# Altium integrated library Analog Devices Data Converters Analog-to-Digital Converters.IntLib: 2404 symbols (part 341 of 346)
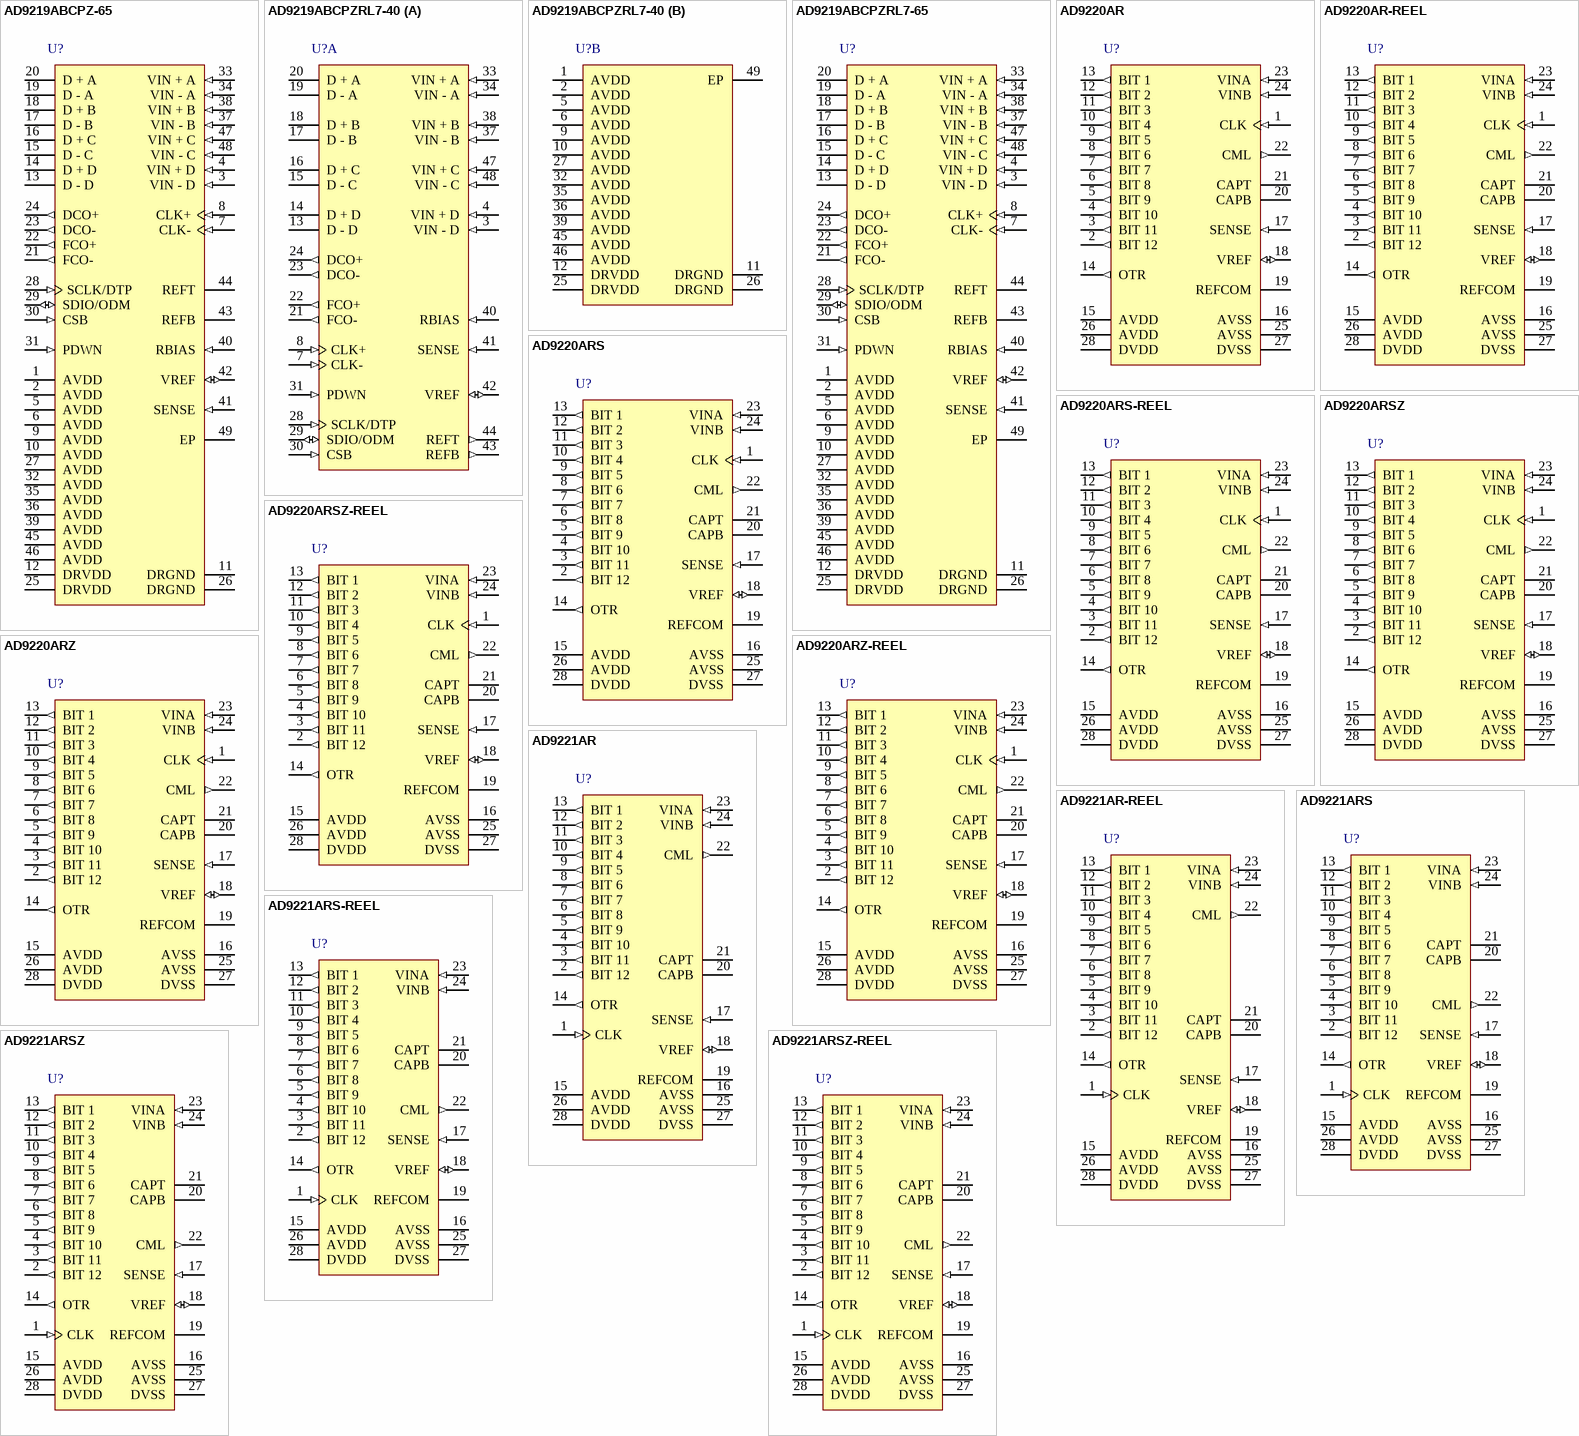
[diagram p337: symbols AD9219ABCPZ-65 to AD9221ARSZ-REEL]

## AD9221AR
designator U?
Single 12-Bit Monolithic Analog-to-Digital Converter with Parallel Interface, 1.5MSPS, -40 to +85 degC, RW-28, Tube; Generic Part Number: AD9221; Manufacturer: Analog Devices; PartNumber: AD9221AR; Resolution (Bits): 12; Channels: 1; Throughput Rate (SPS): 1.5M; Interface: Par; DatasheetVersion: Rev.E; PackageVersion: 060706-A; PackageReference: RW-28; PackageDescription: 28-Lead Standard Small Outline Package [SOIC_W]; Supplier 1: Digi-Key; Supplier Part Number 1: AD9221AR-ND; Supplier 2: Mouser; Supplier Part Number 2: 584-AD9221AR; RoHS: N; Packing: Tube; Mounting Technology: Surface Mount; Code_JEDEC: MS-013-AE; ComponentLink1Description: Manufacturer URL; ComponentLink1URL: http://www.analog.com/en/index.html; ComponentLink2Description: Datasheet; ComponentLink2URL: http://www.analog.com/static/imported-files/data_sheets/AD9221_9223_9220.pdf; ComponentLink3Description: Package Specification; ComponentLink3URL: http://www.analog.com/static/imported-files/packages/35833120341221RW_28.pdf; ComponentLink4Description: Product URL; ComponentLink4URL: http://www.analog.com/en/analog-to-digital-converters/ad-converters/ad9221/products/product.html
footprint RW-28_N (SOIC, 28-Leads, Body 17.9x7.5mm, Pitch 1.27mm, IPC Medium Density)
footprint RW-28_L (SOIC, 28-Leads, Body 17.9x7.5mm, Pitch 1.27mm, IPC High Density)
footprint RW-28_M (SOIC, 28-Leads, Body 17.9x7.5mm, Pitch 1.27mm, IPC Low Density)
pins: 1 CLK (in) "Clock Input Pin", 2 BIT 12 (out) "Least Significant Data Bit (LSB)", 3 BIT 11 (out) "Data Output Bit", 4 BIT 10 (out) "Data Output Bit", 5 BIT 9 (out) "Data Output Bit", 6 BIT 8 (out) "Data Output Bit", 7 BIT 7 (out) "Data Output Bit", 8 BIT 6 (out) "Data Output Bit", 9 BIT 5 (out) "Data Output Bit", 10 BIT 4 (out) "Data Output Bit", 11 BIT 3 (out) "Data Output Bit", 12 BIT 2 (out) "Data Output Bit", 13 BIT 1 (out) "Most Significant Data Bit (MSB)", 14 OTR (out) "Out of Range", 15 AVDD (power) "5 V Analog Supply", 16 AVSS (power) "Analog Ground", 17 SENSE (in) "Reference Select", 18 VREF (io) "Input Span Select (Reference I/O)", 19 REFCOM (power) "Reference Common", 20 CAPB "Noise Reduction Pin", 21 CAPT "Noise Reduction Pin", 22 CML (out) "Common-Mode Level (Midsupply)", 23 VINA (in) "Analog Input Pin (+)", 24 VINB (in) "Analog Input Pin (-)", 25 AVSS (power) "Analog Ground", 26 AVDD (power) "5 V Analog Supply", 27 DVSS (power) "Digital Ground", 28 DVDD (power) "3 V to 5 V Digital Supply"

## AD9221AR-REEL
designator U?
Single 12-Bit Monolithic Analog-to-Digital Converter with Parallel Interface, 1.5MSPS, -40 to +85 degC, RW-28, Reel; Generic Part Number: AD9221; Manufacturer: Analog Devices; PartNumber: AD9221AR-REEL; Resolution (Bits): 12; Channels: 1; Throughput Rate (SPS): 1.5M; Interface: Par; DatasheetVersion: Rev.E; PackageVersion: 060706-A; PackageReference: RW-28; PackageDescription: 28-Lead Standard Small Outline Package [SOIC_W]; Supplier 1: Digi-Key; Supplier Part Number 1: AD9221AR-REEL-ND; Supplier 2: Mouser; Supplier Part Number 2: 584-AD9221AR-R; RoHS: N; Packing: Reel; Mounting Technology: Surface Mount; Code_JEDEC: MS-013-AE; ComponentLink1Description: Manufacturer URL; ComponentLink1URL: http://www.analog.com/en/index.html; ComponentLink2Description: Datasheet; ComponentLink2URL: http://www.analog.com/static/imported-files/data_sheets/AD9221_9223_9220.pdf; ComponentLink3Description: Package Specification; ComponentLink3URL: http://www.analog.com/static/imported-files/packages/35833120341221RW_28.pdf; ComponentLink4Description: Product URL; ComponentLink4URL: http://www.analog.com/en/analog-to-digital-converters/ad-converters/ad9221/products/product.html
footprint RW-28_N (SOIC, 28-Leads, Body 17.9x7.5mm, Pitch 1.27mm, IPC Medium Density)
footprint RW-28_L (SOIC, 28-Leads, Body 17.9x7.5mm, Pitch 1.27mm, IPC High Density)
footprint RW-28_M (SOIC, 28-Leads, Body 17.9x7.5mm, Pitch 1.27mm, IPC Low Density)
pins: 1 CLK (in) "Clock Input Pin", 2 BIT 12 (out) "Least Significant Data Bit (LSB)", 3 BIT 11 (out) "Data Output Bit", 4 BIT 10 (out) "Data Output Bit", 5 BIT 9 (out) "Data Output Bit", 6 BIT 8 (out) "Data Output Bit", 7 BIT 7 (out) "Data Output Bit", 8 BIT 6 (out) "Data Output Bit", 9 BIT 5 (out) "Data Output Bit", 10 BIT 4 (out) "Data Output Bit", 11 BIT 3 (out) "Data Output Bit", 12 BIT 2 (out) "Data Output Bit", 13 BIT 1 (out) "Most Significant Data Bit (MSB)", 14 OTR (out) "Out of Range", 15 AVDD (power) "5 V Analog Supply", 16 AVSS (power) "Analog Ground", 17 SENSE (in) "Reference Select", 18 VREF (io) "Input Span Select (Reference I/O)", 19 REFCOM (power) "Reference Common", 20 CAPB "Noise Reduction Pin", 21 CAPT "Noise Reduction Pin", 22 CML (out) "Common-Mode Level (Midsupply)", 23 VINA (in) "Analog Input Pin (+)", 24 VINB (in) "Analog Input Pin (-)", 25 AVSS (power) "Analog Ground", 26 AVDD (power) "5 V Analog Supply", 27 DVSS (power) "Digital Ground", 28 DVDD (power) "3 V to 5 V Digital Supply"

## AD9221ARS
designator U?
Single 12-Bit Monolithic Analog-to-Digital Converter with Parallel Interface, 1.5MSPS, -40 to +85 degC, RS-28, Tube; Generic Part Number: AD9221; Manufacturer: Analog Devices; PartNumber: AD9221ARS; Resolution (Bits): 12; Channels: 1; Throughput Rate (SPS): 1.5M; Interface: Par; DatasheetVersion: Rev.E; PackageVersion: 060106-A; PackageReference: RS-28; PackageDescription: 28-Lead Shrink Small Outline Package [SSOP]; Supplier 1: Digi-Key; Supplier Part Number 1: AD9221ARS-ND; Supplier 2: Mouser; Supplier Part Number 2: 584-AD9221ARS; RoHS: N; Packing: Tube; Mounting Technology: Surface Mount; Code_JEDEC: MO-150-AH; ComponentLink1Description: Manufacturer URL; ComponentLink1URL: http://www.analog.com/en/index.html; ComponentLink2Description: Datasheet; ComponentLink2URL: http://www.analog.com/static/imported-files/data_sheets/AD9221_9223_9220.pdf; ComponentLink3Description: Package Specification; ComponentLink3URL: http://www.analog.com/static/imported-files/packages/32122249223724RS_28.pdf; ComponentLink4Description: Product URL; ComponentLink4URL: http://www.analog.com/en/analog-to-digital-converters/ad-converters/ad9221/products/product.html
footprint RS-28_N (SOP, 28-Leads, Body 10.2x5.3mm, Pitch 0.65mm, IPC Medium Density)
footprint RS-28_L (SOP, 28-Leads, Body 10.2x5.3mm, Pitch 0.65mm, IPC High Density)
footprint RS-28_M (SOP, 28-Leads, Body 10.2x5.3mm, Pitch 0.65mm, IPC Low Density)
pins: 1 CLK (in) "Clock Input Pin", 2 BIT 12 (out) "Least Significant Data Bit (LSB)", 3 BIT 11 (out) "Data Output Bit", 4 BIT 10 (out) "Data Output Bit", 5 BIT 9 (out) "Data Output Bit", 6 BIT 8 (out) "Data Output Bit", 7 BIT 7 (out) "Data Output Bit", 8 BIT 6 (out) "Data Output Bit", 9 BIT 5 (out) "Data Output Bit", 10 BIT 4 (out) "Data Output Bit", 11 BIT 3 (out) "Data Output Bit", 12 BIT 2 (out) "Data Output Bit", 13 BIT 1 (out) "Most Significant Data Bit (MSB)", 14 OTR (out) "Out of Range", 15 AVDD (power) "5 V Analog Supply", 16 AVSS (power) "Analog Ground", 17 SENSE (in) "Reference Select", 18 VREF (io) "Reference I/O", 19 REFCOM (power) "Reference Common", 20 CAPB "Noise Reduction Pin", 21 CAPT "Noise Reduction Pin", 22 CML (out) "Common-Mode Level (Midsupply)", 23 VINA (in) "Analog Input Pin (+)", 24 VINB (in) "Analog Input Pin (-)", 25 AVSS (power) "Analog Ground", 26 AVDD (power) "5 V Analog Supply", 27 DVSS (power) "Digital Ground", 28 DVDD (power) "3 V to 5 V Digital Supply"

## AD9221ARS-REEL
designator U?
Single 12-Bit Monolithic Analog-to-Digital Converter with Parallel Interface, 1.5MSPS, -40 to +85 degC, RS-28, Reel; Generic Part Number: AD9221; Manufacturer: Analog Devices; PartNumber: AD9221ARS-REEL; Resolution (Bits): 12; Channels: 1; Throughput Rate (SPS): 1.5M; Interface: Par; DatasheetVersion: Rev.E; PackageVersion: 060106-A; PackageReference: RS-28; PackageDescription: 28-Lead Shrink Small Outline Package [SSOP]; Supplier 1: Digi-Key; Supplier Part Number 1: AD9221ARS-REEL-ND; Supplier 2: Newark; Supplier Part Number 2: 98B7460; Supplier 3: Mouser; Supplier Part Number 3: 584-AD9221ARS-R; RoHS: N; Packing: Reel; Mounting Technology: Surface Mount; Code_JEDEC: MO-150-AH; ComponentLink1Description: Manufacturer URL; ComponentLink1URL: http://www.analog.com/en/index.html; ComponentLink2Description: Datasheet; ComponentLink2URL: http://www.analog.com/static/imported-files/data_sheets/AD9221_9223_9220.pdf; ComponentLink3Description: Package Specification; ComponentLink3URL: http://www.analog.com/static/imported-files/packages/32122249223724RS_28.pdf; ComponentLink4Description: Product URL; ComponentLink4URL: http://www.analog.com/en/analog-to-digital-converters/ad-converters/ad9221/products/product.html
footprint RS-28_N (SOP, 28-Leads, Body 10.2x5.3mm, Pitch 0.65mm, IPC Medium Density)
footprint RS-28_L (SOP, 28-Leads, Body 10.2x5.3mm, Pitch 0.65mm, IPC High Density)
footprint RS-28_M (SOP, 28-Leads, Body 10.2x5.3mm, Pitch 0.65mm, IPC Low Density)
pins: 1 CLK (in) "Clock Input Pin", 2 BIT 12 (out) "Least Significant Data Bit (LSB)", 3 BIT 11 (out) "Data Output Bit", 4 BIT 10 (out) "Data Output Bit", 5 BIT 9 (out) "Data Output Bit", 6 BIT 8 (out) "Data Output Bit", 7 BIT 7 (out) "Data Output Bit", 8 BIT 6 (out) "Data Output Bit", 9 BIT 5 (out) "Data Output Bit", 10 BIT 4 (out) "Data Output Bit", 11 BIT 3 (out) "Data Output Bit", 12 BIT 2 (out) "Data Output Bit", 13 BIT 1 (out) "Most Significant Data Bit (MSB)", 14 OTR (out) "Out of Range", 15 AVDD (power) "5 V Analog Supply", 16 AVSS (power) "Analog Ground", 17 SENSE (in) "Reference Select", 18 VREF (io) "Reference I/O", 19 REFCOM (power) "Reference Common", 20 CAPB "Noise Reduction Pin", 21 CAPT "Noise Reduction Pin", 22 CML (out) "Common-Mode Level (Midsupply)", 23 VINA (in) "Analog Input Pin (+)", 24 VINB (in) "Analog Input Pin (-)", 25 AVSS (power) "Analog Ground", 26 AVDD (power) "5 V Analog Supply", 27 DVSS (power) "Digital Ground", 28 DVDD (power) "3 V to 5 V Digital Supply"

## AD9221ARSZ
designator U?
Single 12-Bit Monolithic Analog-to-Digital Converter with Parallel Interface, 1.5MSPS, -40 to +85 degC, RS-28, Pb-Free, Tube; Generic Part Number: AD9221; Manufacturer: Analog Devices; PartNumber: AD9221ARSZ; Resolution (Bits): 12; Channels: 1; Throughput Rate (SPS): 1.5M; Interface: Par; DatasheetVersion: Rev.E; PackageVersion: 060106-A; PackageReference: RS-28; PackageDescription: 28-Lead Shrink Small Outline Package [SSOP]; Supplier 1: Digi-Key; Supplier Part Number 1: AD9221ARSZ-ND; Supplier 2: Newark; Supplier Part Number 2: 59K7159; Supplier 3: Mouser; Supplier Part Number 3: 584-AD9221ARSZ; RoHS: Y; Packing: Tube; Mounting Technology: Surface Mount; Code_JEDEC: MO-150-AH; ComponentLink1Description: Manufacturer URL; ComponentLink1URL: http://www.analog.com/en/index.html; ComponentLink2Description: Datasheet; ComponentLink2URL: http://www.analog.com/static/imported-files/data_sheets/AD9221_9223_9220.pdf; ComponentLink3Description: Package Specification; ComponentLink3URL: http://www.analog.com/static/imported-files/packages/32122249223724RS_28.pdf; ComponentLink4Description: Product URL; ComponentLink4URL: http://www.analog.com/en/analog-to-digital-converters/ad-converters/ad9221/products/product.html
footprint RS-28_N (SOP, 28-Leads, Body 10.2x5.3mm, Pitch 0.65mm, IPC Medium Density)
footprint RS-28_L (SOP, 28-Leads, Body 10.2x5.3mm, Pitch 0.65mm, IPC High Density)
footprint RS-28_M (SOP, 28-Leads, Body 10.2x5.3mm, Pitch 0.65mm, IPC Low Density)
pins: 1 CLK (in) "Clock Input Pin", 2 BIT 12 (out) "Least Significant Data Bit (LSB)", 3 BIT 11 (out) "Data Output Bit", 4 BIT 10 (out) "Data Output Bit", 5 BIT 9 (out) "Data Output Bit", 6 BIT 8 (out) "Data Output Bit", 7 BIT 7 (out) "Data Output Bit", 8 BIT 6 (out) "Data Output Bit", 9 BIT 5 (out) "Data Output Bit", 10 BIT 4 (out) "Data Output Bit", 11 BIT 3 (out) "Data Output Bit", 12 BIT 2 (out) "Data Output Bit", 13 BIT 1 (out) "Most Significant Data Bit (MSB)", 14 OTR (out) "Out of Range", 15 AVDD (power) "5 V Analog Supply", 16 AVSS (power) "Analog Ground", 17 SENSE (in) "Reference Select", 18 VREF (io) "Reference I/O", 19 REFCOM (power) "Reference Common", 20 CAPB "Noise Reduction Pin", 21 CAPT "Noise Reduction Pin", 22 CML (out) "Common-Mode Level (Midsupply)", 23 VINA (in) "Analog Input Pin (+)", 24 VINB (in) "Analog Input Pin (-)", 25 AVSS (power) "Analog Ground", 26 AVDD (power) "5 V Analog Supply", 27 DVSS (power) "Digital Ground", 28 DVDD (power) "3 V to 5 V Digital Supply"

## AD9221ARSZ-REEL
designator U?
Single 12-Bit Monolithic Analog-to-Digital Converter with Parallel Interface, 1.5MSPS, 0 to +70 degC, RS-28, Pb-Free, Reel; Generic Part Number: AD9221; Manufacturer: Analog Devices; PartNumber: AD9221ARSZ-REEL; Resolution (Bits): 12; Channels: 1; Throughput Rate (SPS): 1.5M; Interface: Par; DatasheetVersion: Rev.E; PackageVersion: 060106-A; PackageReference: RS-28; PackageDescription: 28-Lead Shrink Small Outline Package [SSOP]; Supplier 1: Digi-Key; Supplier Part Number 1: AD9221ARSZ-REEL-ND; Supplier 2: Mouser; Supplier Part Number 2: 584-AD9221ARSZ-R; RoHS: Y; Packing: Reel; Mounting Technology: Surface Mount; Code_JEDEC: MO-150-AH; ComponentLink1Description: Manufacturer URL; ComponentLink1URL: http://www.analog.com/en/index.html; ComponentLink2Description: Datasheet; ComponentLink2URL: http://www.analog.com/static/imported-files/data_sheets/AD9221_9223_9220.pdf; ComponentLink3Description: Package Specification; ComponentLink3URL: http://www.analog.com/static/imported-files/packages/32122249223724RS_28.pdf; ComponentLink4Description: Product URL; ComponentLink4URL: http://www.analog.com/en/analog-to-digital-converters/ad-converters/ad9221/products/product.html
footprint RS-28_N (SOP, 28-Leads, Body 10.2x5.3mm, Pitch 0.65mm, IPC Medium Density)
footprint RS-28_L (SOP, 28-Leads, Body 10.2x5.3mm, Pitch 0.65mm, IPC High Density)
footprint RS-28_M (SOP, 28-Leads, Body 10.2x5.3mm, Pitch 0.65mm, IPC Low Density)
pins: 1 CLK (in) "Clock Input Pin", 2 BIT 12 (out) "Least Significant Data Bit (LSB)", 3 BIT 11 (out) "Data Output Bit", 4 BIT 10 (out) "Data Output Bit", 5 BIT 9 (out) "Data Output Bit", 6 BIT 8 (out) "Data Output Bit", 7 BIT 7 (out) "Data Output Bit", 8 BIT 6 (out) "Data Output Bit", 9 BIT 5 (out) "Data Output Bit", 10 BIT 4 (out) "Data Output Bit", 11 BIT 3 (out) "Data Output Bit", 12 BIT 2 (out) "Data Output Bit", 13 BIT 1 (out) "Most Significant Data Bit (MSB)", 14 OTR (out) "Out of Range", 15 AVDD (power) "5 V Analog Supply", 16 AVSS (power) "Analog Ground", 17 SENSE (in) "Reference Select", 18 VREF (io) "Reference I/O", 19 REFCOM (power) "Reference Common", 20 CAPB "Noise Reduction Pin", 21 CAPT "Noise Reduction Pin", 22 CML (out) "Common-Mode Level (Midsupply)", 23 VINA (in) "Analog Input Pin (+)", 24 VINB (in) "Analog Input Pin (-)", 25 AVSS (power) "Analog Ground", 26 AVDD (power) "5 V Analog Supply", 27 DVSS (power) "Digital Ground", 28 DVDD (power) "3 V to 5 V Digital Supply"

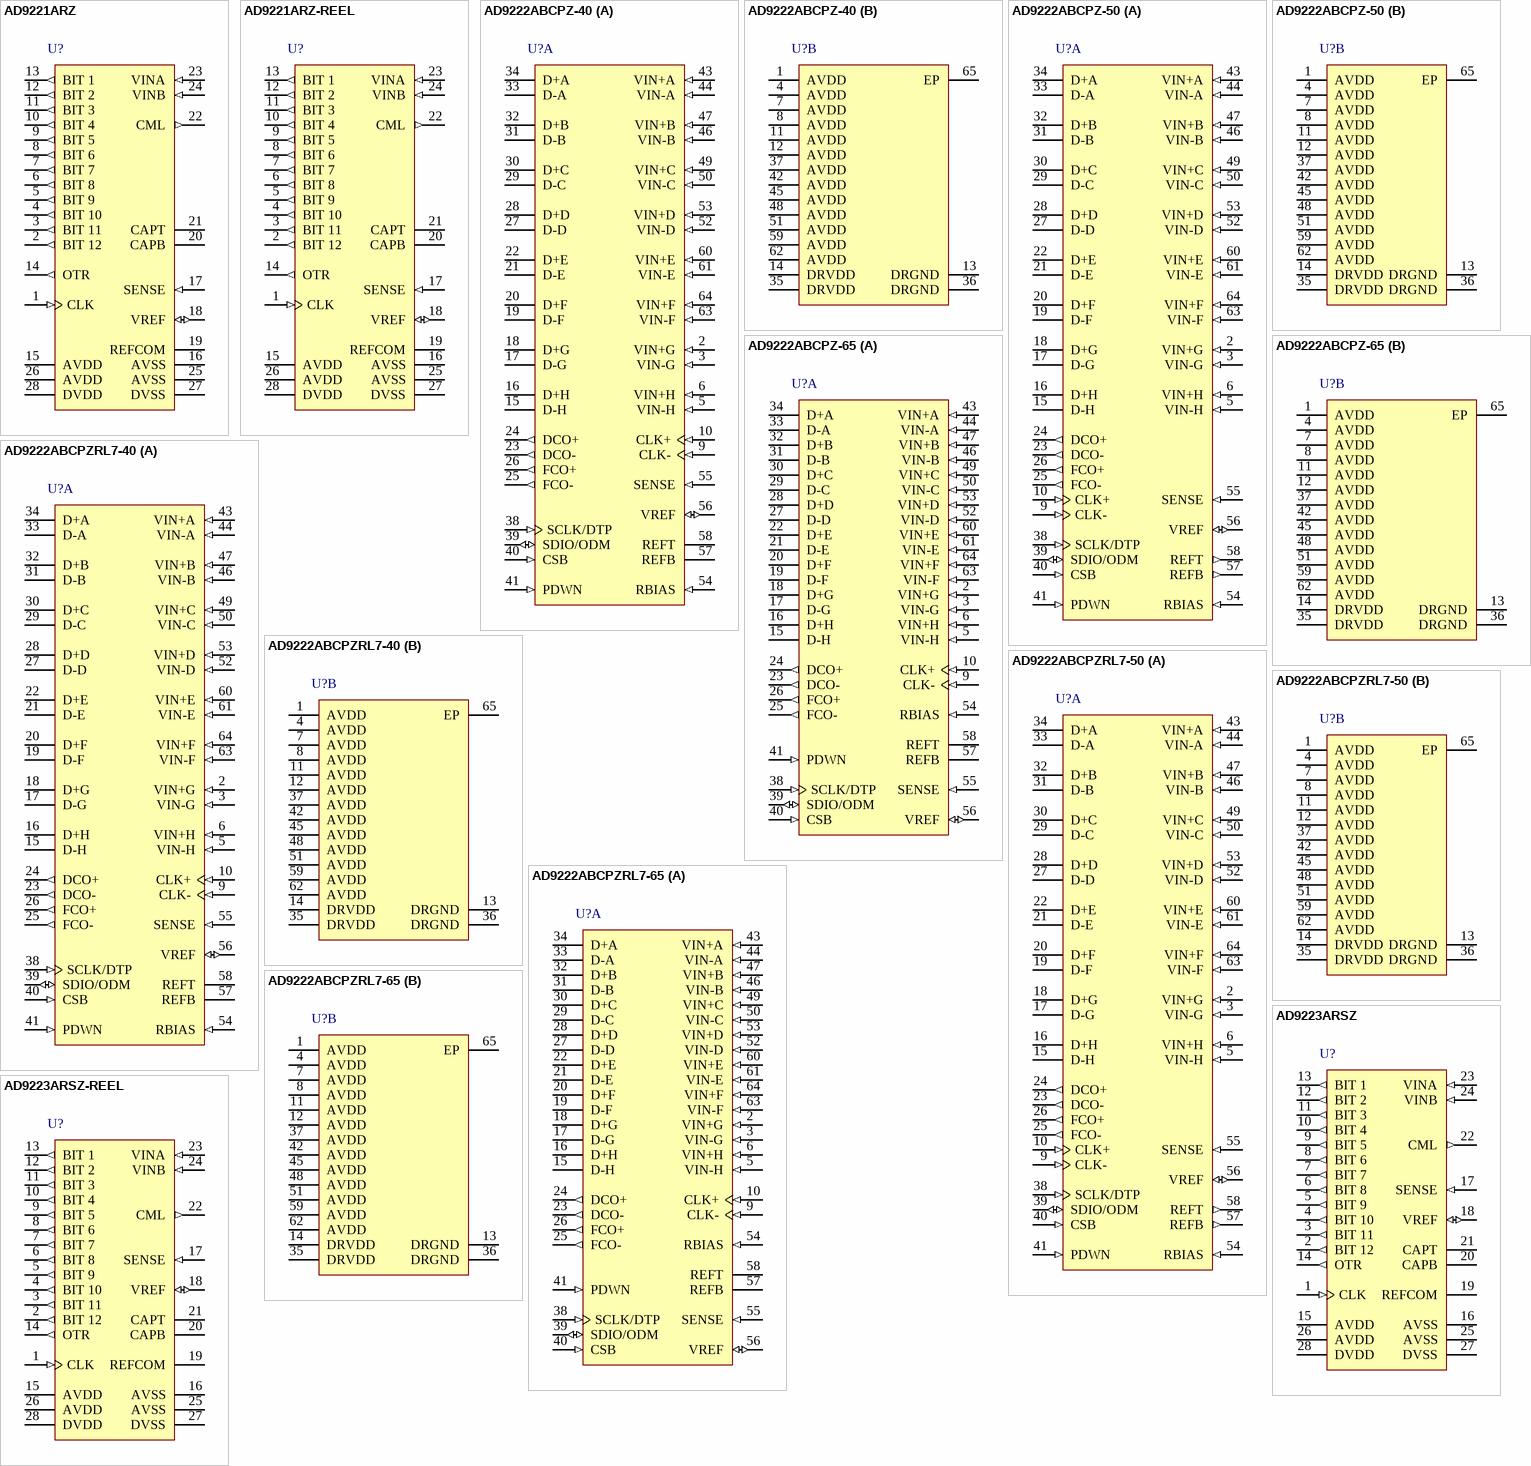
[diagram p104: symbols AD9221ARZ to AD9223ARSZ-REEL]

## AD9221ARZ
designator U?
Single 12-Bit Monolithic Analog-to-Digital Converter with Parallel Interface, 1.5MSPS, -40 to +85 degC, RW-28, Pb-Free, Tube; Generic Part Number: AD9221; Manufacturer: Analog Devices; PartNumber: AD9221ARZ; Resolution (Bits): 12; Channels: 1; Throughput Rate (SPS): 1.5M; Interface: Par; DatasheetVersion: Rev.E; PackageVersion: 060706-A; PackageReference: RW-28; PackageDescription: 28-Lead Standard Small Outline Package [SOIC_W]; Supplier 1: Digi-Key; Supplier Part Number 1: AD9221ARZ-ND; Supplier 2: Mouser; Supplier Part Number 2: 584-AD9221ARZ; RoHS: Y; Packing: Tube; Mounting Technology: Surface Mount; Code_JEDEC: MS-013-AE; ComponentLink1Description: Manufacturer URL; ComponentLink1URL: http://www.analog.com/en/index.html; ComponentLink2Description: Datasheet; ComponentLink2URL: http://www.analog.com/static/imported-files/data_sheets/AD9221_9223_9220.pdf; ComponentLink3Description: Package Specification; ComponentLink3URL: http://www.analog.com/static/imported-files/packages/35833120341221RW_28.pdf; ComponentLink4Description: Product URL; ComponentLink4URL: http://www.analog.com/en/analog-to-digital-converters/ad-converters/ad9221/products/product.html
footprint RW-28_N (SOIC, 28-Leads, Body 17.9x7.5mm, Pitch 1.27mm, IPC Medium Density)
footprint RW-28_L (SOIC, 28-Leads, Body 17.9x7.5mm, Pitch 1.27mm, IPC High Density)
footprint RW-28_M (SOIC, 28-Leads, Body 17.9x7.5mm, Pitch 1.27mm, IPC Low Density)
pins: 1 CLK (in) "Clock Input Pin", 2 BIT 12 (out) "Least Significant Data Bit (LSB)", 3 BIT 11 (out) "Data Output Bit", 4 BIT 10 (out) "Data Output Bit", 5 BIT 9 (out) "Data Output Bit", 6 BIT 8 (out) "Data Output Bit", 7 BIT 7 (out) "Data Output Bit", 8 BIT 6 (out) "Data Output Bit", 9 BIT 5 (out) "Data Output Bit", 10 BIT 4 (out) "Data Output Bit", 11 BIT 3 (out) "Data Output Bit", 12 BIT 2 (out) "Data Output Bit", 13 BIT 1 (out) "Most Significant Data Bit (MSB)", 14 OTR (out) "Out of Range", 15 AVDD (power) "5 V Analog Supply", 16 AVSS (power) "Analog Ground", 17 SENSE (in) "Reference Select", 18 VREF (io) "Input Span Select (Reference I/O)", 19 REFCOM (power) "Reference Common", 20 CAPB "Noise Reduction Pin", 21 CAPT "Noise Reduction Pin", 22 CML (out) "Common-Mode Level (Midsupply)", 23 VINA (in) "Analog Input Pin (+)", 24 VINB (in) "Analog Input Pin (-)", 25 AVSS (power) "Analog Ground", 26 AVDD (power) "5 V Analog Supply", 27 DVSS (power) "Digital Ground", 28 DVDD (power) "3 V to 5 V Digital Supply"

## AD9221ARZ-REEL
designator U?
Single 12-Bit Monolithic Analog-to-Digital Converter with Parallel Interface, 1.5MSPS, -40 to +85 degC, RW-28, Pb-Free, Reel; Generic Part Number: AD9221; Manufacturer: Analog Devices; PartNumber: AD9221ARZ-REEL; Resolution (Bits): 12; Channels: 1; Throughput Rate (SPS): 1.5M; Interface: Par; DatasheetVersion: Rev.E; PackageVersion: 060706-A; PackageReference: RW-28; PackageDescription: 28-Lead Standard Small Outline Package [SOIC_W]; Supplier 1: Digi-Key; Supplier Part Number 1: AD9221ARZ-REEL-ND; Supplier 2: Mouser; Supplier Part Number 2: 584-AD9221ARZ-R; RoHS: Y; Packing: Reel; Mounting Technology: Surface Mount; Code_JEDEC: MS-013-AE; ComponentLink1Description: Manufacturer URL; ComponentLink1URL: http://www.analog.com/en/index.html; ComponentLink2Description: Datasheet; ComponentLink2URL: http://www.analog.com/static/imported-files/data_sheets/AD9221_9223_9220.pdf; ComponentLink3Description: Package Specification; ComponentLink3URL: http://www.analog.com/static/imported-files/packages/35833120341221RW_28.pdf; ComponentLink4Description: Product URL; ComponentLink4URL: http://www.analog.com/en/analog-to-digital-converters/ad-converters/ad9221/products/product.html
footprint RW-28_N (SOIC, 28-Leads, Body 17.9x7.5mm, Pitch 1.27mm, IPC Medium Density)
footprint RW-28_L (SOIC, 28-Leads, Body 17.9x7.5mm, Pitch 1.27mm, IPC High Density)
footprint RW-28_M (SOIC, 28-Leads, Body 17.9x7.5mm, Pitch 1.27mm, IPC Low Density)
pins: 1 CLK (in) "Clock Input Pin", 2 BIT 12 (out) "Least Significant Data Bit (LSB)", 3 BIT 11 (out) "Data Output Bit", 4 BIT 10 (out) "Data Output Bit", 5 BIT 9 (out) "Data Output Bit", 6 BIT 8 (out) "Data Output Bit", 7 BIT 7 (out) "Data Output Bit", 8 BIT 6 (out) "Data Output Bit", 9 BIT 5 (out) "Data Output Bit", 10 BIT 4 (out) "Data Output Bit", 11 BIT 3 (out) "Data Output Bit", 12 BIT 2 (out) "Data Output Bit", 13 BIT 1 (out) "Most Significant Data Bit (MSB)", 14 OTR (out) "Out of Range", 15 AVDD (power) "5 V Analog Supply", 16 AVSS (power) "Analog Ground", 17 SENSE (in) "Reference Select", 18 VREF (io) "Input Span Select (Reference I/O)", 19 REFCOM (power) "Reference Common", 20 CAPB "Noise Reduction Pin", 21 CAPT "Noise Reduction Pin", 22 CML (out) "Common-Mode Level (Midsupply)", 23 VINA (in) "Analog Input Pin (+)", 24 VINB (in) "Analog Input Pin (-)", 25 AVSS (power) "Analog Ground", 26 AVDD (power) "5 V Analog Supply", 27 DVSS (power) "Digital Ground", 28 DVDD (power) "3 V to 5 V Digital Supply"

## AD9222ABCPZ-40
designator U?
Octal 12-Bit Analog-to-Digital Converter with LVDS, Serial Interface, 40MSPS, -40 to +85 degC, CP-64-6, Pb-Free, Tray; Generic Part Number: AD9222-40; Manufacturer: Analog Devices; PartNumber: AD9222ABCPZ-40; Resolution (Bits): 12; Channels: 8; Throughput Rate (SPS): 40M; DatasheetVersion: Rev.F; PackageVersion: 041509-A; PackageReference: CP-64-6; PackageDescription: 64-Lead Lead Frame Chip Scale Package [LFCSP_VQ] 9 x 9 mm Body, Very Thin Quad; Supplier 1: Digi-Key; Supplier Part Number 1: AD9222ABCPZ-40-ND; Supplier 2: Farnell; Supplier Part Number 2: 2312981; Supplier 3: Newark; Supplier Part Number 3: 70R1859; Supplier 4: Mouser; Supplier Part Number 4: 584-AD9222ABCPZ-40; Interface: LVDS, Ser; RoHS: Y; Packing: Tray; Mounting Technology: Surface Mount; Code_JEDEC: MO-220-VMMD-4; ComponentLink1Description: Manufacturer URL; ComponentLink1URL: http://www.analog.com/en/index.html; ComponentLink2Description: Datasheet; ComponentLink2URL: http://www.analog.com/static/imported-files/data_sheets/AD9222.pdf; ComponentLink3Description: Package Specification; ComponentLink3URL: http://www.analog.com/static/imported-files/packages/PKG_PDF/LFCSP(CP)/CP_64_6.pdf; ComponentLink4Description: Product URL; ComponentLink4URL: http://www.analog.com/en/analog-to-digital-converters/ad-converters/ad9222/products/product.html
footprint CP-64-6_N (QFN, 64-Leads, Body 9x9mm, Pitch 0.5mm, Thermal Pad 7.5x7.5mm, IPC Medium Density)
footprint CP-64-6_L (QFN, 64-Leads, Body 9x9mm, Pitch 0.5mm, Thermal Pad 7.5x7.5mm, IPC High Density)
footprint CP-64-6_M (QFN, 64-Leads, Body 9x9mm, Pitch 0.5mm, Thermal Pad 7.5x7.5mm, IPC Low Density)
part A pins: 2 VIN+G (in) "ADC G Analog Input True", 3 VIN-G (in) "ADC G Analog Input Complement", 5 VIN-H (in) "ADC H Analog Input Complement", 6 VIN+H (in) "ADC H Analog Input True", 9 CLK- (in) "Input Clock Complement", 10 CLK+ (in) "Input Clock True", 15 D-H (hiz) "ADC H Digital Output Complement", 16 D+H (hiz) "ADC H Digital Output True", 17 D-G (hiz) "ADC G Digital Output Complement", 18 D+G (hiz) "ADC G Digital Output True", 19 D-F (hiz) "ADC F Digital Output Complement", 20 D+F (hiz) "ADC F Digital Output True", 21 D-E (hiz) "ADC E Digital Output Complement", 22 D+E (hiz) "ADC E Digital Output True", 23 DCO- (out) "Data Clock Digital Output Complement", 24 DCO+ (out) "Data Clock Digital Output True", 25 FCO- (out) "Frame Clock Digital Output Complement", 26 FCO+ (out) "Frame Clock Digital Output True", 27 D-D (hiz) "ADC D Digital Output Complement", 28 D+D (hiz) "ADC D Digital Output True", 29 D-C (hiz) "ADC C Digital Output Complement", 30 D+C (hiz) "ADC C Digital Output True", 31 D-B (hiz) "ADC B Digital Output Complement", 32 D+B (hiz) "ADC B Digital Output True", 33 D-A (hiz) "ADC A Digital Output Complement", 34 D+A (hiz) "ADC A Digital Output True", 38 SCLK/DTP (in) "Serial Clock/Digital Test Pattern", 39 SDIO/ODM (io) "Serial Data Input-Output/Output Driver Mode", 40 CSB (in) "Chip Select Bar", 41 PDWN (in) "Power Down", 43 VIN+A (in) "ADC A Analog Input True", 44 VIN-A (in) "ADC A Analog Input Complement", 46 VIN-B (in) "ADC B Analog Input Complement", 47 VIN+B (in) "ADC B Analog Input True", 49 VIN+C (in) "ADC C Analog Input True", 50 VIN-C (in) "ADC C Analog Input Complement", 52 VIN-D (in) "ADC D Analog Input Complement", 53 VIN+D (in) "ADC D Analog Input True", 54 RBIAS (in) "External Resistor to Set the Internal ADC Core Bias Current", 55 SENSE (in) "Reference Mode Selection", 56 VREF (io) "Voltage Reference Input/Output", 57 REFB "Differential Reference (Negative)", 58 REFT "Differential Reference (Positive)", 60 VIN+E (in) "ADC E Analog Input True", 61 VIN-E (in) "ADC E Analog Input Complement", 63 VIN-F (in) "ADC F Analog Input Complement", 64 VIN+F (in) "ADC F Analog Input True"
part B pins: 1 AVDD (power) "1.8 V Analog Supply", 4 AVDD (power) "1.8 V Analog Supply", 7 AVDD (power) "1.8 V Analog Supply", 8 AVDD (power) "1.8 V Analog Supply", 11 AVDD (power) "1.8 V Analog Supply", 12 AVDD (power) "1.8 V Analog Supply", 13 DRGND (power) "Digital Output Driver Ground", 14 DRVDD (power) "1.8 V Digital Output Driver Supply", 35 DRVDD (power) "1.8 V Digital Output Driver Supply", 36 DRGND (power) "Digital Output Driver Ground", 37 AVDD (power) "1.8 V Analog Supply", 42 AVDD (power) "1.8 V Analog Supply", 45 AVDD (power) "1.8 V Analog Supply", 48 AVDD (power) "1.8 V Analog Supply", 51 AVDD (power) "1.8 V Analog Supply", 59 AVDD (power) "1.8 V Analog Supply", 62 AVDD (power) "1.8 V Analog Supply", 65 EP (power) "Analog Ground (Exposed Paddle)"

## AD9222ABCPZ-50
designator U?
Octal 12-Bit Analog-to-Digital Converter with LVDS, Serial Interface, 50MSPS, -40 to +85 degC, CP-64-6, Pb-Free, Tray; Generic Part Number: AD9222-50; Manufacturer: Analog Devices; PartNumber: AD9222ABCPZ-50; Resolution (Bits): 12; Channels: 8; Throughput Rate (SPS): 50M; DatasheetVersion: Rev.F; PackageVersion: 041509-A; PackageReference: CP-64-6; PackageDescription: 64-Lead Lead Frame Chip Scale Package [LFCSP_VQ] 9 x 9 mm Body, Very Thin Quad; Supplier 1: Digi-Key; Supplier Part Number 1: AD9222ABCPZ-50-ND; Supplier 2: Newark; Supplier Part Number 2: 70R1860; Supplier 3: Mouser; Supplier Part Number 3: 584-AD9222ABCPZ-50; Interface: LVDS, Ser; RoHS: Y; Packing: Tray; Mounting Technology: Surface Mount; Code_JEDEC: MO-220-VMMD-4; ComponentLink1Description: Manufacturer URL; ComponentLink1URL: http://www.analog.com/en/index.html; ComponentLink2Description: Datasheet; ComponentLink2URL: http://www.analog.com/static/imported-files/data_sheets/AD9222.pdf; ComponentLink3Description: Package Specification; ComponentLink3URL: http://www.analog.com/static/imported-files/packages/PKG_PDF/LFCSP(CP)/CP_64_6.pdf; ComponentLink4Description: Product URL; ComponentLink4URL: http://www.analog.com/en/analog-to-digital-converters/ad-converters/ad9222/products/product.html
footprint CP-64-6_N (QFN, 64-Leads, Body 9x9mm, Pitch 0.5mm, Thermal Pad 7.5x7.5mm, IPC Medium Density)
footprint CP-64-6_L (QFN, 64-Leads, Body 9x9mm, Pitch 0.5mm, Thermal Pad 7.5x7.5mm, IPC High Density)
footprint CP-64-6_M (QFN, 64-Leads, Body 9x9mm, Pitch 0.5mm, Thermal Pad 7.5x7.5mm, IPC Low Density)
part A pins: 2 VIN+G (in) "ADC G Analog Input True", 3 VIN-G (in) "ADC G Analog Input Complement", 5 VIN-H (in) "ADC H Analog Input Complement", 6 VIN+H (in) "ADC H Analog Input True", 9 CLK- (in) "Input Clock Complement", 10 CLK+ (in) "Input Clock True", 15 D-H (hiz) "ADC H Digital Output Complement", 16 D+H (hiz) "ADC H Digital Output True", 17 D-G (hiz) "ADC G Digital Output Complement", 18 D+G (hiz) "ADC G Digital Output True", 19 D-F (hiz) "ADC F Digital Output Complement", 20 D+F (hiz) "ADC F Digital Output True", 21 D-E (hiz) "ADC E Digital Output Complement", 22 D+E (hiz) "ADC E Digital Output True", 23 DCO- (out) "Data Clock Digital Output Complement", 24 DCO+ (out) "Data Clock Digital Output True", 25 FCO- (out) "Frame Clock Digital Output Complement", 26 FCO+ (out) "Frame Clock Digital Output True", 27 D-D (hiz) "ADC D Digital Output Complement", 28 D+D (hiz) "ADC D Digital Output True", 29 D-C (hiz) "ADC C Digital Output Complement", 30 D+C (hiz) "ADC C Digital Output True", 31 D-B (hiz) "ADC B Digital Output Complement", 32 D+B (hiz) "ADC B Digital Output True", 33 D-A (hiz) "ADC A Digital Output Complement", 34 D+A (hiz) "ADC A Digital Output True", 38 SCLK/DTP (in) "Serial Clock/Digital Test Pattern", 39 SDIO/ODM (io) "Serial Data Input-Output/Output Driver Mode", 40 CSB (in) "Chip Select Bar", 41 PDWN (in) "Power Down", 43 VIN+A (in) "ADC A Analog Input True", 44 VIN-A (in) "ADC A Analog Input Complement", 46 VIN-B (in) "ADC B Analog Input Complement", 47 VIN+B (in) "ADC B Analog Input True", 49 VIN+C (in) "ADC C Analog Input True", 50 VIN-C (in) "ADC C Analog Input Complement", 52 VIN-D (in) "ADC D Analog Input Complement", 53 VIN+D (in) "ADC D Analog Input True", 54 RBIAS (in) "External Resistor to Set the Internal ADC Core Bias Current", 55 SENSE (in) "Reference Mode Selection", 56 VREF (io) "Voltage Reference Input/Output", 57 REFB (out) "Differential Reference (Negative)", 58 REFT (out) "Differential Reference (Positive)", 60 VIN+E (in) "ADC E Analog Input True", 61 VIN-E (in) "ADC E Analog Input Complement", 63 VIN-F (in) "ADC F Analog Input Complement", 64 VIN+F (in) "ADC F Analog Input True"
part B pins: 1 AVDD (power) "1.8 V Analog Supply", 4 AVDD (power) "1.8 V Analog Supply", 7 AVDD (power) "1.8 V Analog Supply", 8 AVDD (power) "1.8 V Analog Supply", 11 AVDD (power) "1.8 V Analog Supply", 12 AVDD (power) "1.8 V Analog Supply", 13 DRGND (power) "Digital Output Driver Ground", 14 DRVDD (power) "1.8 V Digital Output Driver Supply", 35 DRVDD (power) "1.8 V Digital Output Driver Supply", 36 DRGND (power) "Digital Output Driver Ground", 37 AVDD (power) "1.8 V Analog Supply", 42 AVDD (power) "1.8 V Analog Supply", 45 AVDD (power) "1.8 V Analog Supply", 48 AVDD (power) "1.8 V Analog Supply", 51 AVDD (power) "1.8 V Analog Supply", 59 AVDD (power) "1.8 V Analog Supply", 62 AVDD (power) "1.8 V Analog Supply", 65 EP (power) "Analog Ground (Exposed Paddle)"

## AD9222ABCPZ-65
designator U?
Octal 12-Bit Analog-to-Digital Converter with LVDS, Serial Interface, 65MSPS, -40 to +85 degC, CP-64-6, Pb-Free, Tray; Generic Part Number: AD9222-65; Manufacturer: Analog Devices; PartNumber: AD9222ABCPZ-65; Resolution (Bits): 12; Channels: 8; Throughput Rate (SPS): 65M; DatasheetVersion: Rev.F; PackageVersion: 041509-A; PackageReference: CP-64-6; PackageDescription: 64-Lead Lead Frame Chip Scale Package [LFCSP_VQ] 9 x 9 mm Body, Very Thin Quad; Supplier 1: Digi-Key; Supplier Part Number 1: AD9222ABCPZ-65-ND; Supplier 2: Newark; Supplier Part Number 2: 70R1861; Supplier 3: Mouser; Supplier Part Number 3: 584-AD9222ABCPZ-65; Interface: LVDS, Ser; RoHS: Y; Packing: Tray; Mounting Technology: Surface Mount; Code_JEDEC: MO-220-VMMD-4; ComponentLink1Description: Manufacturer URL; ComponentLink1URL: http://www.analog.com/en/index.html; ComponentLink2Description: Datasheet; ComponentLink2URL: http://www.analog.com/static/imported-files/data_sheets/AD9222.pdf; ComponentLink3Description: Package Specification; ComponentLink3URL: http://www.analog.com/static/imported-files/packages/PKG_PDF/LFCSP(CP)/CP_64_6.pdf; ComponentLink4Description: Product URL; ComponentLink4URL: http://www.analog.com/en/analog-to-digital-converters/ad-converters/ad9222/products/product.html
footprint CP-64-6_N (QFN, 64-Leads, Body 9x9mm, Pitch 0.5mm, Thermal Pad 7.5x7.5mm, IPC Medium Density)
footprint CP-64-6_L (QFN, 64-Leads, Body 9x9mm, Pitch 0.5mm, Thermal Pad 7.5x7.5mm, IPC High Density)
footprint CP-64-6_M (QFN, 64-Leads, Body 9x9mm, Pitch 0.5mm, Thermal Pad 7.5x7.5mm, IPC Low Density)
part A pins: 2 VIN+G (in) "ADC G Analog Input True", 3 VIN-G (in) "ADC G Analog Input Complement", 5 VIN-H (in) "ADC H Analog Input Complement", 6 VIN+H (in) "ADC H Analog Input True", 9 CLK- (in) "Input Clock Complement", 10 CLK+ (in) "Input Clock True", 15 D-H (hiz) "ADC H Digital Output Complement", 16 D+H (hiz) "ADC H Digital Output True", 17 D-G (hiz) "ADC G Digital Output Complement", 18 D+G (hiz) "ADC G Digital Output True", 19 D-F (hiz) "ADC F Digital Output Complement", 20 D+F (hiz) "ADC F Digital Output True", 21 D-E (hiz) "ADC E Digital Output Complement", 22 D+E (hiz) "ADC E Digital Output True", 23 DCO- (out) "Data Clock Digital Output Complement", 24 DCO+ (out) "Data Clock Digital Output True", 25 FCO- (out) "Frame Clock Digital Output Complement", 26 FCO+ (out) "Frame Clock Digital Output True", 27 D-D (hiz) "ADC D Digital Output Complement", 28 D+D (hiz) "ADC D Digital Output True", 29 D-C (hiz) "ADC C Digital Output Complement", 30 D+C (hiz) "ADC C Digital Output True", 31 D-B (hiz) "ADC B Digital Output Complement", 32 D+B (hiz) "ADC B Digital Output True", 33 D-A (hiz) "ADC A Digital Output Complement", 34 D+A (hiz) "ADC A Digital Output True", 38 SCLK/DTP (in) "Serial Clock/Digital Test Pattern", 39 SDIO/ODM (io) "Serial Data Input-Output/Output Driver Mode", 40 CSB (in) "Chip Select Bar", 41 PDWN (in) "Power Down", 43 VIN+A (in) "ADC A Analog Input True", 44 VIN-A (in) "ADC A Analog Input Complement", 46 VIN-B (in) "ADC B Analog Input Complement", 47 VIN+B (in) "ADC B Analog Input True", 49 VIN+C (in) "ADC C Analog Input True", 50 VIN-C (in) "ADC C Analog Input Complement", 52 VIN-D (in) "ADC D Analog Input Complement", 53 VIN+D (in) "ADC D Analog Input True", 54 RBIAS (in) "External Resistor to Set the Internal ADC Core Bias Current", 55 SENSE (in) "Reference Mode Selection", 56 VREF (io) "Voltage Reference Input/Output", 57 REFB "Differential Reference (Negative)", 58 REFT "Differential Reference (Positive)", 60 VIN+E (in) "ADC E Analog Input True", 61 VIN-E (in) "ADC E Analog Input Complement", 63 VIN-F (in) "ADC F Analog Input Complement", 64 VIN+F (in) "ADC F Analog Input True"
part B pins: 1 AVDD (power) "1.8 V Analog Supply", 4 AVDD (power) "1.8 V Analog Supply", 7 AVDD (power) "1.8 V Analog Supply", 8 AVDD (power) "1.8 V Analog Supply", 11 AVDD (power) "1.8 V Analog Supply", 12 AVDD (power) "1.8 V Analog Supply", 13 DRGND (power) "Digital Output Driver Ground", 14 DRVDD (power) "1.8 V Digital Output Driver Supply", 35 DRVDD (power) "1.8 V Digital Output Driver Supply", 36 DRGND (power) "Digital Output Driver Ground", 37 AVDD (power) "1.8 V Analog Supply", 42 AVDD (power) "1.8 V Analog Supply", 45 AVDD (power) "1.8 V Analog Supply", 48 AVDD (power) "1.8 V Analog Supply", 51 AVDD (power) "1.8 V Analog Supply", 59 AVDD (power) "1.8 V Analog Supply", 62 AVDD (power) "1.8 V Analog Supply", 65 EP (power) "Analog Ground (Exposed Paddle)"

## AD9222ABCPZRL7-40
designator U?
Octal 12-Bit Analog-to-Digital Converter with LVDS, Serial Interface, 40MSPS, -40 to +85 degC, CP-64-6, Pb-Free, Reel; Generic Part Number: AD9222-40; Manufacturer: Analog Devices; PartNumber: AD9222ABCPZRL7-40; Resolution (Bits): 12; Channels: 8; Throughput Rate (SPS): 40M; DatasheetVersion: Rev.F; PackageVersion: 041509-A; PackageReference: CP-64-6; PackageDescription: 64-Lead Lead Frame Chip Scale Package [LFCSP_VQ] 9 x 9 mm Body, Very Thin Quad; Supplier 1: Mouser; Supplier Part Number 1: N/A; Interface: LVDS, Ser; RoHS: Y; Packing: Reel; Mounting Technology: Surface Mount; Code_JEDEC: MO-220-VMMD-4; ComponentLink1Description: Manufacturer URL; ComponentLink1URL: http://www.analog.com/en/index.html; ComponentLink2Description: Datasheet; ComponentLink2URL: http://www.analog.com/static/imported-files/data_sheets/AD9222.pdf; ComponentLink3Description: Package Specification; ComponentLink3URL: http://www.analog.com/static/imported-files/packages/PKG_PDF/LFCSP(CP)/CP_64_6.pdf; ComponentLink4Description: Product URL; ComponentLink4URL: http://www.analog.com/en/analog-to-digital-converters/ad-converters/ad9222/products/product.html
footprint CP-64-6_N (QFN, 64-Leads, Body 9x9mm, Pitch 0.5mm, Thermal Pad 7.5x7.5mm, IPC Medium Density)
footprint CP-64-6_L (QFN, 64-Leads, Body 9x9mm, Pitch 0.5mm, Thermal Pad 7.5x7.5mm, IPC High Density)
footprint CP-64-6_M (QFN, 64-Leads, Body 9x9mm, Pitch 0.5mm, Thermal Pad 7.5x7.5mm, IPC Low Density)
part A pins: 2 VIN+G (in) "ADC G Analog Input True", 3 VIN-G (in) "ADC G Analog Input Complement", 5 VIN-H (in) "ADC H Analog Input Complement", 6 VIN+H (in) "ADC H Analog Input True", 9 CLK- (in) "Input Clock Complement", 10 CLK+ (in) "Input Clock True", 15 D-H (hiz) "ADC H Digital Output Complement", 16 D+H (hiz) "ADC H Digital Output True", 17 D-G (hiz) "ADC G Digital Output Complement", 18 D+G (hiz) "ADC G Digital Output True", 19 D-F (hiz) "ADC F Digital Output Complement", 20 D+F (hiz) "ADC F Digital Output True", 21 D-E (hiz) "ADC E Digital Output Complement", 22 D+E (hiz) "ADC E Digital Output True", 23 DCO- (out) "Data Clock Digital Output Complement", 24 DCO+ (out) "Data Clock Digital Output True", 25 FCO- (out) "Frame Clock Digital Output Complement", 26 FCO+ (out) "Frame Clock Digital Output True", 27 D-D (hiz) "ADC D Digital Output Complement", 28 D+D (hiz) "ADC D Digital Output True", 29 D-C (hiz) "ADC C Digital Output Complement", 30 D+C (hiz) "ADC C Digital Output True", 31 D-B (hiz) "ADC B Digital Output Complement", 32 D+B (hiz) "ADC B Digital Output True", 33 D-A (hiz) "ADC A Digital Output Complement", 34 D+A (hiz) "ADC A Digital Output True", 38 SCLK/DTP (in) "Serial Clock/Digital Test Pattern", 39 SDIO/ODM (io) "Serial Data Input-Output/Output Driver Mode", 40 CSB (in) "Chip Select Bar", 41 PDWN (in) "Power Down", 43 VIN+A (in) "ADC A Analog Input True", 44 VIN-A (in) "ADC A Analog Input Complement", 46 VIN-B (in) "ADC B Analog Input Complement", 47 VIN+B (in) "ADC B Analog Input True", 49 VIN+C (in) "ADC C Analog Input True", 50 VIN-C (in) "ADC C Analog Input Complement", 52 VIN-D (in) "ADC D Analog Input Complement", 53 VIN+D (in) "ADC D Analog Input True", 54 RBIAS (in) "External Resistor to Set the Internal ADC Core Bias Current", 55 SENSE (in) "Reference Mode Selection", 56 VREF (io) "Voltage Reference Input/Output", 57 REFB "Differential Reference (Negative)", 58 REFT "Differential Reference (Positive)", 60 VIN+E (in) "ADC E Analog Input True", 61 VIN-E (in) "ADC E Analog Input Complement", 63 VIN-F (in) "ADC F Analog Input Complement", 64 VIN+F (in) "ADC F Analog Input True"
part B pins: 1 AVDD (power) "1.8 V Analog Supply", 4 AVDD (power) "1.8 V Analog Supply", 7 AVDD (power) "1.8 V Analog Supply", 8 AVDD (power) "1.8 V Analog Supply", 11 AVDD (power) "1.8 V Analog Supply", 12 AVDD (power) "1.8 V Analog Supply", 13 DRGND (power) "Digital Output Driver Ground", 14 DRVDD (power) "1.8 V Digital Output Driver Supply", 35 DRVDD (power) "1.8 V Digital Output Driver Supply", 36 DRGND (power) "Digital Output Driver Ground", 37 AVDD (power) "1.8 V Analog Supply", 42 AVDD (power) "1.8 V Analog Supply", 45 AVDD (power) "1.8 V Analog Supply", 48 AVDD (power) "1.8 V Analog Supply", 51 AVDD (power) "1.8 V Analog Supply", 59 AVDD (power) "1.8 V Analog Supply", 62 AVDD (power) "1.8 V Analog Supply", 65 EP (power) "Analog Ground (Exposed Paddle)"

## AD9222ABCPZRL7-50
designator U?
Octal 12-Bit Analog-to-Digital Converter with LVDS, Serial Interface, 50MSPS, -40 to +85 degC, CP-64-6, Pb-Free, Reel; Generic Part Number: AD9222-50; Manufacturer: Analog Devices; PartNumber: AD9222ABCPZRL7-50; Resolution (Bits): 12; Channels: 8; Throughput Rate (SPS): 50M; DatasheetVersion: Rev.F; PackageVersion: 041509-A; PackageReference: CP-64-6; PackageDescription: 64-Lead Lead Frame Chip Scale Package [LFCSP_VQ] 9 x 9 mm Body, Very Thin Quad; Supplier 1: Digi-Key; Supplier Part Number 1: AD9222ABCPZRL7-50-ND; Supplier 2: Mouser; Supplier Part Number 2: 584-AD9222ABCPZR7-50; Interface: LVDS, Ser; RoHS: Y; Packing: Reel; Mounting Technology: Surface Mount; Code_JEDEC: MO-220-VMMD-4; ComponentLink1Description: Manufacturer URL; ComponentLink1URL: http://www.analog.com/en/index.html; ComponentLink2Description: Datasheet; ComponentLink2URL: http://www.analog.com/static/imported-files/data_sheets/AD9222.pdf; ComponentLink3Description: Package Specification; ComponentLink3URL: http://www.analog.com/static/imported-files/packages/PKG_PDF/LFCSP(CP)/CP_64_6.pdf; ComponentLink4Description: Product URL; ComponentLink4URL: http://www.analog.com/en/analog-to-digital-converters/ad-converters/ad9222/products/product.html
footprint CP-64-6_N (QFN, 64-Leads, Body 9x9mm, Pitch 0.5mm, Thermal Pad 7.5x7.5mm, IPC Medium Density)
footprint CP-64-6_L (QFN, 64-Leads, Body 9x9mm, Pitch 0.5mm, Thermal Pad 7.5x7.5mm, IPC High Density)
footprint CP-64-6_M (QFN, 64-Leads, Body 9x9mm, Pitch 0.5mm, Thermal Pad 7.5x7.5mm, IPC Low Density)
part A pins: 2 VIN+G (in) "ADC G Analog Input True", 3 VIN-G (in) "ADC G Analog Input Complement", 5 VIN-H (in) "ADC H Analog Input Complement", 6 VIN+H (in) "ADC H Analog Input True", 9 CLK- (in) "Input Clock Complement", 10 CLK+ (in) "Input Clock True", 15 D-H (hiz) "ADC H Digital Output Complement", 16 D+H (hiz) "ADC H Digital Output True", 17 D-G (hiz) "ADC G Digital Output Complement", 18 D+G (hiz) "ADC G Digital Output True", 19 D-F (hiz) "ADC F Digital Output Complement", 20 D+F (hiz) "ADC F Digital Output True", 21 D-E (hiz) "ADC E Digital Output Complement", 22 D+E (hiz) "ADC E Digital Output True", 23 DCO- (out) "Data Clock Digital Output Complement", 24 DCO+ (out) "Data Clock Digital Output True", 25 FCO- (out) "Frame Clock Digital Output Complement", 26 FCO+ (out) "Frame Clock Digital Output True", 27 D-D (hiz) "ADC D Digital Output Complement", 28 D+D (hiz) "ADC D Digital Output True", 29 D-C (hiz) "ADC C Digital Output Complement", 30 D+C (hiz) "ADC C Digital Output True", 31 D-B (hiz) "ADC B Digital Output Complement", 32 D+B (hiz) "ADC B Digital Output True", 33 D-A (hiz) "ADC A Digital Output Complement", 34 D+A (hiz) "ADC A Digital Output True", 38 SCLK/DTP (in) "Serial Clock/Digital Test Pattern", 39 SDIO/ODM (io) "Serial Data Input-Output/Output Driver Mode", 40 CSB (in) "Chip Select Bar", 41 PDWN (in) "Power Down", 43 VIN+A (in) "ADC A Analog Input True", 44 VIN-A (in) "ADC A Analog Input Complement", 46 VIN-B (in) "ADC B Analog Input Complement", 47 VIN+B (in) "ADC B Analog Input True", 49 VIN+C (in) "ADC C Analog Input True", 50 VIN-C (in) "ADC C Analog Input Complement", 52 VIN-D (in) "ADC D Analog Input Complement", 53 VIN+D (in) "ADC D Analog Input True", 54 RBIAS (in) "External Resistor to Set the Internal ADC Core Bias Current", 55 SENSE (in) "Reference Mode Selection", 56 VREF (io) "Voltage Reference Input/Output", 57 REFB (out) "Differential Reference (Negative)", 58 REFT (out) "Differential Reference (Positive)", 60 VIN+E (in) "ADC E Analog Input True", 61 VIN-E (in) "ADC E Analog Input Complement", 63 VIN-F (in) "ADC F Analog Input Complement", 64 VIN+F (in) "ADC F Analog Input True"
part B pins: 1 AVDD (power) "1.8 V Analog Supply", 4 AVDD (power) "1.8 V Analog Supply", 7 AVDD (power) "1.8 V Analog Supply", 8 AVDD (power) "1.8 V Analog Supply", 11 AVDD (power) "1.8 V Analog Supply", 12 AVDD (power) "1.8 V Analog Supply", 13 DRGND (power) "Digital Output Driver Ground", 14 DRVDD (power) "1.8 V Digital Output Driver Supply", 35 DRVDD (power) "1.8 V Digital Output Driver Supply", 36 DRGND (power) "Digital Output Driver Ground", 37 AVDD (power) "1.8 V Analog Supply", 42 AVDD (power) "1.8 V Analog Supply", 45 AVDD (power) "1.8 V Analog Supply", 48 AVDD (power) "1.8 V Analog Supply", 51 AVDD (power) "1.8 V Analog Supply", 59 AVDD (power) "1.8 V Analog Supply", 62 AVDD (power) "1.8 V Analog Supply", 65 EP (power) "Analog Ground (Exposed Paddle)"

## AD9222ABCPZRL7-65
designator U?
Octal 12-Bit Analog-to-Digital Converter with LVDS, Serial Interface, 65MSPS, -40 to +85 degC, CP-64-6, Pb-Free, Reel; Generic Part Number: AD9222-65; Manufacturer: Analog Devices; PartNumber: AD9222ABCPZRL7-65; Resolution (Bits): 12; Channels: 8; Throughput Rate (SPS): 65M; DatasheetVersion: Rev.F; PackageVersion: 041509-A; PackageReference: CP-64-6; PackageDescription: 64-Lead Lead Frame Chip Scale Package [LFCSP_VQ] 9 x 9 mm Body, Very Thin Quad; Supplier 1: Digi-Key; Supplier Part Number 1: AD9222ABCPZRL7-65-ND; Supplier 2: Mouser; Supplier Part Number 2: 584-AD9222ABCPZR7-65; Interface: LVDS, Ser; RoHS: Y; Packing: Reel; Mounting Technology: Surface Mount; Code_JEDEC: MO-220-VMMD-4; ComponentLink1Description: Manufacturer URL; ComponentLink1URL: http://www.analog.com/en/index.html; ComponentLink2Description: Datasheet; ComponentLink2URL: http://www.analog.com/static/imported-files/data_sheets/AD9222.pdf; ComponentLink3Description: Package Specification; ComponentLink3URL: http://www.analog.com/static/imported-files/packages/PKG_PDF/LFCSP(CP)/CP_64_6.pdf; ComponentLink4Description: Product URL; ComponentLink4URL: http://www.analog.com/en/analog-to-digital-converters/ad-converters/ad9222/products/product.html
footprint CP-64-6_N (QFN, 64-Leads, Body 9x9mm, Pitch 0.5mm, Thermal Pad 7.5x7.5mm, IPC Medium Density)
footprint CP-64-6_L (QFN, 64-Leads, Body 9x9mm, Pitch 0.5mm, Thermal Pad 7.5x7.5mm, IPC High Density)
footprint CP-64-6_M (QFN, 64-Leads, Body 9x9mm, Pitch 0.5mm, Thermal Pad 7.5x7.5mm, IPC Low Density)
part A pins: 2 VIN+G (in) "ADC G Analog Input True", 3 VIN-G (in) "ADC G Analog Input Complement", 5 VIN-H (in) "ADC H Analog Input Complement", 6 VIN+H (in) "ADC H Analog Input True", 9 CLK- (in) "Input Clock Complement", 10 CLK+ (in) "Input Clock True", 15 D-H (hiz) "ADC H Digital Output Complement", 16 D+H (hiz) "ADC H Digital Output True", 17 D-G (hiz) "ADC G Digital Output Complement", 18 D+G (hiz) "ADC G Digital Output True", 19 D-F (hiz) "ADC F Digital Output Complement", 20 D+F (hiz) "ADC F Digital Output True", 21 D-E (hiz) "ADC E Digital Output Complement", 22 D+E (hiz) "ADC E Digital Output True", 23 DCO- (out) "Data Clock Digital Output Complement", 24 DCO+ (out) "Data Clock Digital Output True", 25 FCO- (out) "Frame Clock Digital Output Complement", 26 FCO+ (out) "Frame Clock Digital Output True", 27 D-D (hiz) "ADC D Digital Output Complement", 28 D+D (hiz) "ADC D Digital Output True", 29 D-C (hiz) "ADC C Digital Output Complement", 30 D+C (hiz) "ADC C Digital Output True", 31 D-B (hiz) "ADC B Digital Output Complement", 32 D+B (hiz) "ADC B Digital Output True", 33 D-A (hiz) "ADC A Digital Output Complement", 34 D+A (hiz) "ADC A Digital Output True", 38 SCLK/DTP (in) "Serial Clock/Digital Test Pattern", 39 SDIO/ODM (io) "Serial Data Input-Output/Output Driver Mode", 40 CSB (in) "Chip Select Bar", 41 PDWN (in) "Power Down", 43 VIN+A (in) "ADC A Analog Input True", 44 VIN-A (in) "ADC A Analog Input Complement", 46 VIN-B (in) "ADC B Analog Input Complement", 47 VIN+B (in) "ADC B Analog Input True", 49 VIN+C (in) "ADC C Analog Input True", 50 VIN-C (in) "ADC C Analog Input Complement", 52 VIN-D (in) "ADC D Analog Input Complement", 53 VIN+D (in) "ADC D Analog Input True", 54 RBIAS (in) "External Resistor to Set the Internal ADC Core Bias Current", 55 SENSE (in) "Reference Mode Selection", 56 VREF (io) "Voltage Reference Input/Output", 57 REFB "Differential Reference (Negative)", 58 REFT "Differential Reference (Positive)", 60 VIN+E (in) "ADC E Analog Input True", 61 VIN-E (in) "ADC E Analog Input Complement", 63 VIN-F (in) "ADC F Analog Input Complement", 64 VIN+F (in) "ADC F Analog Input True"
part B pins: 1 AVDD (power) "1.8 V Analog Supply", 4 AVDD (power) "1.8 V Analog Supply", 7 AVDD (power) "1.8 V Analog Supply", 8 AVDD (power) "1.8 V Analog Supply", 11 AVDD (power) "1.8 V Analog Supply", 12 AVDD (power) "1.8 V Analog Supply", 13 DRGND (power) "Digital Output Driver Ground", 14 DRVDD (power) "1.8 V Digital Output Driver Supply", 35 DRVDD (power) "1.8 V Digital Output Driver Supply", 36 DRGND (power) "Digital Output Driver Ground", 37 AVDD (power) "1.8 V Analog Supply", 42 AVDD (power) "1.8 V Analog Supply", 45 AVDD (power) "1.8 V Analog Supply", 48 AVDD (power) "1.8 V Analog Supply", 51 AVDD (power) "1.8 V Analog Supply", 59 AVDD (power) "1.8 V Analog Supply", 62 AVDD (power) "1.8 V Analog Supply", 65 EP (power) "Analog Ground (Exposed Paddle)"

## AD9223ARSZ
designator U?
Single 12-Bit Monolithic Analog-to-Digital Converter with Parallel Interface, 3MSPS, -40 to +85 degC, RS-28, Pb-Free, Tube; Generic Part Number: AD9223; Manufacturer: Analog Devices; PartNumber: AD9223ARSZ; Resolution (Bits): 12; Channels: 1; Throughput Rate (SPS): 3M; Interface: Par; DatasheetVersion: Rev.E; PackageVersion: 060106-A; PackageReference: RS-28; PackageDescription: 28-Lead Shrink Small Outline Package [SSOP]; Supplier 1: Digi-Key; Supplier Part Number 1: AD9223ARSZ-ND; Supplier 2: Mouser; Supplier Part Number 2: 584-AD9223ARSZ; RoHS: Y; Packing: Tube; Mounting Technology: Surface Mount; Code_JEDEC: MO-150-AH; ComponentLink1Description: Manufacturer URL; ComponentLink1URL: http://www.analog.com/en/index.html; ComponentLink2Description: Datasheet; ComponentLink2URL: http://www.analog.com/static/imported-files/data_sheets/AD9221_9223_9220.pdf; ComponentLink3Description: Package Specification; ComponentLink3URL: http://www.analog.com/static/imported-files/packages/32122249223724RS_28.pdf; ComponentLink4Description: Product URL; ComponentLink4URL: http://www.analog.com/en/analog-to-digital-converters/ad-converters/ad9223/products/product.html
footprint RS-28_N (SOP, 28-Leads, Body 10.2x5.3mm, Pitch 0.65mm, IPC Medium Density)
footprint RS-28_L (SOP, 28-Leads, Body 10.2x5.3mm, Pitch 0.65mm, IPC High Density)
footprint RS-28_M (SOP, 28-Leads, Body 10.2x5.3mm, Pitch 0.65mm, IPC Low Density)
pins: 1 CLK (in) "Clock Input Pin", 2 BIT 12 (out) "Least Significant Data Bit (LSB)", 3 BIT 11 (out) "Data Output Bit", 4 BIT 10 (out) "Data Output Bit", 5 BIT 9 (out) "Data Output Bit", 6 BIT 8 (out) "Data Output Bit", 7 BIT 7 (out) "Data Output Bit", 8 BIT 6 (out) "Data Output Bit", 9 BIT 5 (out) "Data Output Bit", 10 BIT 4 (out) "Data Output Bit", 11 BIT 3 (out) "Data Output Bit", 12 BIT 2 (out) "Data Output Bit", 13 BIT 1 (out) "Most Significant Data Bit (MSB)", 14 OTR (out) "Out of Range", 15 AVDD (power) "5 V Analog Supply", 16 AVSS (power) "Analog Ground", 17 SENSE (in) "Reference Select", 18 VREF (io) "Input Span Select (Reference I/O)", 19 REFCOM (power) "Reference Common", 20 CAPB "Noise Reduction Pin", 21 CAPT "Noise Reduction Pin", 22 CML (out) "Common-Mode Level (Midsupply)", 23 VINA (in) "Analog Input Pin (+)", 24 VINB (in) "Analog Input Pin (-)", 25 AVSS (power) "Analog Ground", 26 AVDD (power) "5 V Analog Supply", 27 DVSS (power) "Digital Ground", 28 DVDD (power) "3 V to 5 V Digital Supply"